# EAGLE library part AUIRS21844S (library International_Rectifier_By_element14_Batch_1)
HIGH- AND LOW-SIDE DRIVER
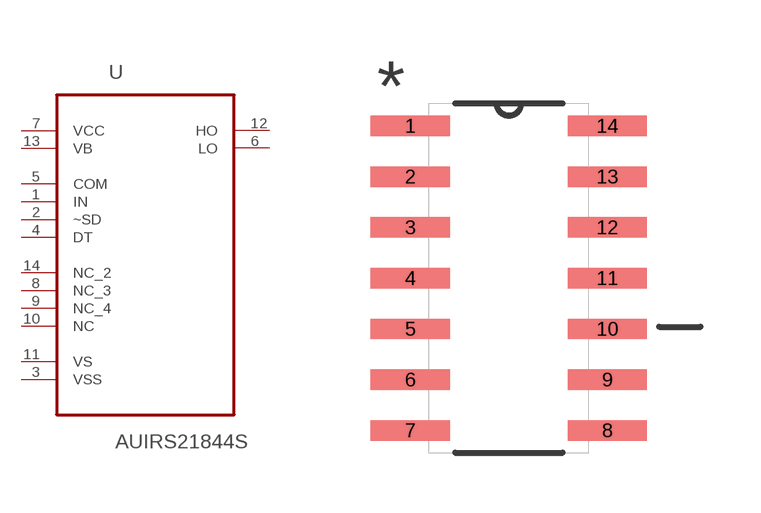
[diagram p16: symbol with the pads of SOIC127P600X175-14N; footprint SOIC127P600X175-14N]

Designator prefix U

## AUIRS21844S (MPN: AUIRS21844S; OC_FARNELL: 1866061; OC_NEWARK: 39T4041; PACKAGE: SOIC-14; SUPPLIER: International Rectifier)  [SOIC127P600X175-14N]
1  IN  in
2  ~SD  in
3  VSS  pwr
4  DT  pas
5  COM  pas
6  LO  out
7  VCC  pwr
8  NC_3  nc
9  NC_4  nc
10  NC  nc
11  VS  pwr
12  HO  out
13  VB  pas
14  NC_2  nc

## Footprint SOIC127P600X175-14N (pad centres in mm)
smd 1.981 x 0.508: 1 -2.464,3.81; 2 -2.464,2.54; 3 -2.464,1.27; 4 -2.464,0; 5 -2.464,-1.27; 6 -2.464,-2.54; 7 -2.464,-3.81; 8 2.464,-3.81; 9 2.464,-2.54; 10 2.464,-1.27; 11 2.464,0; 12 2.464,1.27; 13 2.464,2.54; 14 2.464,3.81